# EAGLE library part HR30-6R-6PD (library hirose)
Hirose HR30-6R-6PD 6 pin round female connector, through-hole.
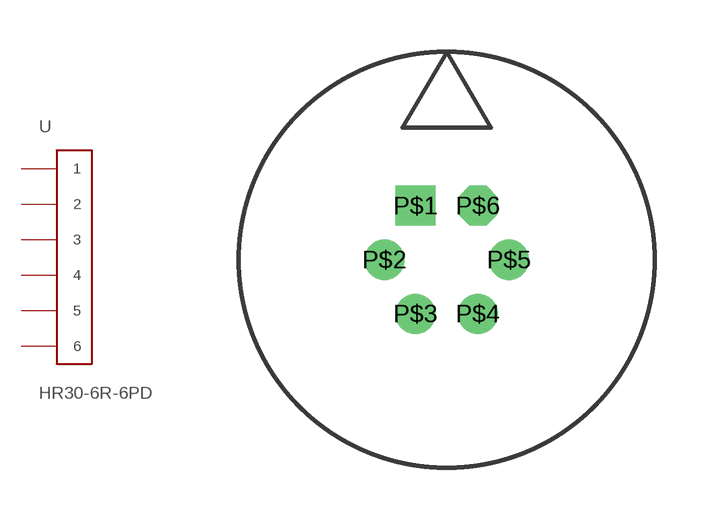
[diagram p0: symbol with the pads of HR30-6R-6PD; footprint HR30-6R-6PD]

Designator prefix -

## HR30-6R-6PD  [HR30-6R-6PD]
P$1  1
P$2  2
P$3  3
P$4  4
P$5  5
P$6  6

## Footprint HR30-6R-6PD (pad centres in mm)
drill 0.65 square: P$1 -0.9,1.56
drill 0.65: P$2 -1.8,0; P$3 -0.9,-1.56; P$4 0.9,-1.56; P$5 1.8,0
drill 0.65 octagon: P$6 0.9,1.56